# Altium footprint library NuM487_DEVB.PcbLib: 23 footprints (part 2 of 2)
Each footprint in its own frame and in the unit in brackets; x right, y up, seen from the top. Pads: shape width x height; smd on the part's side, far side on the other; paste and mask are expansions set on the pad; w line width, h text height; cw(c..) or ccw(c..) is an arc to the next point about the centre after c.
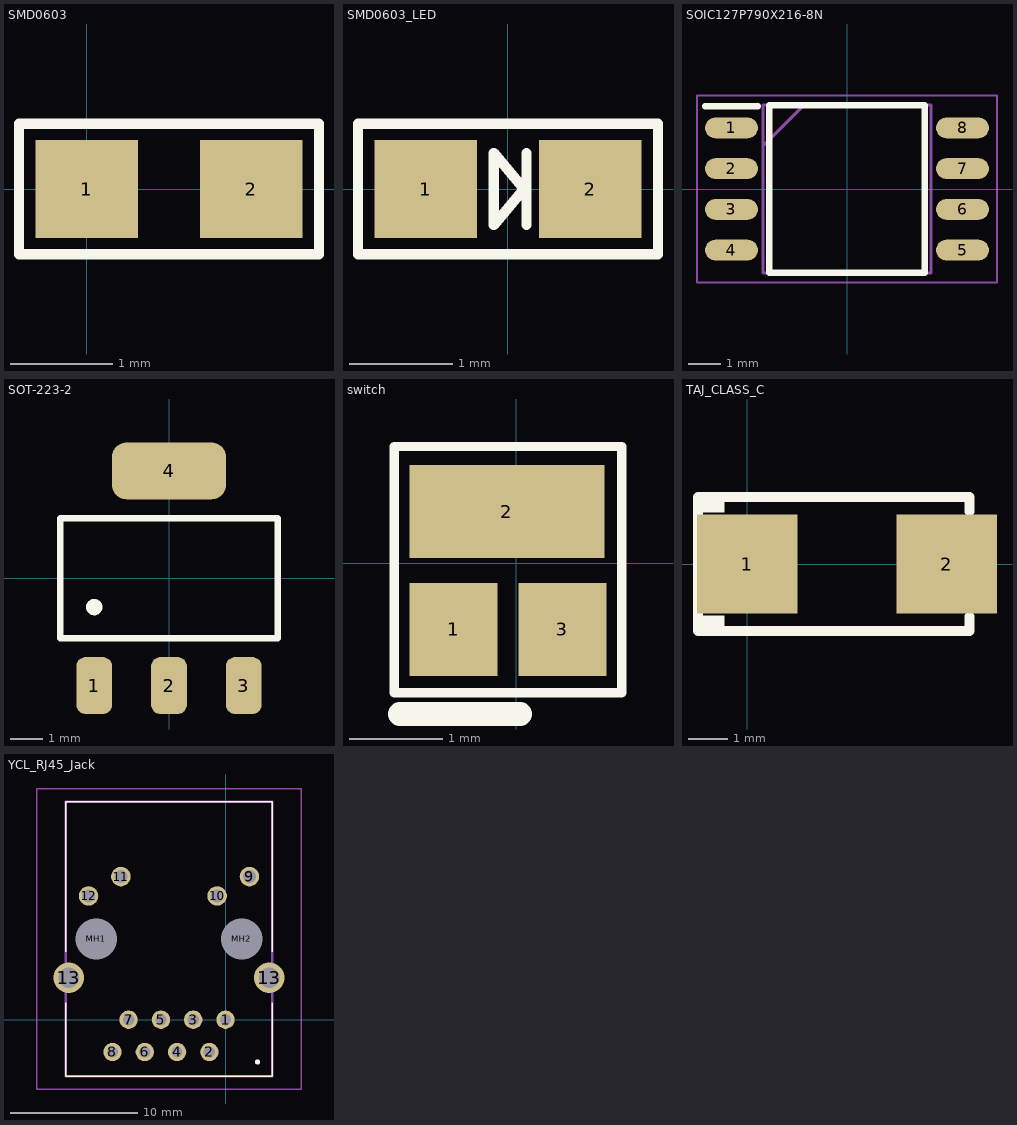
[diagram p1: the footprints below, top view; thin cyan lines are the x and y axes]

## SMD0603 [mm]
pads (2):
  rect 1x0.95 smd: 1(0,0) 2(1.6,0)
Top Overlay:
  lines w0.1: -0.66,-0.635 2.26,-0.635 2.26,0.635 -0.66,0.635 -0.66,-0.635
3D body "AMK107BBJ476MA-RE.stp": height 1, standoff 0, extent -0.05,-0.45 1.65,0.45

## SMD0603_LED [mm]
pads (2):
  rect 1x0.95 smd: 1(-0.8,0) 2(0.8,0)
Top Overlay:
  lines w0.1: -0.14,-0.35 -0.14,0.35 ; -0.136,-0.35 0.158,0 -0.136,0.35 ; 0.18,-0.35 0.18,0.35 ; -1.46,-0.635 1.46,-0.635 1.46,0.635 -1.46,0.635 -1.46,-0.635
3D body "AMK107BBJ476MA-RE.stp": height 1, standoff 0, extent -0.85,-0.45 0.85,0.45

## SOIC127P790X216-8N [mm]
pads (8):
  oval 1.65x0.65 smd: 1(-3.6,1.905) 2(-3.6,0.635) 3(-3.6,-0.635) 4(-3.6,-1.905) 5(3.6,-1.905) 6(3.6,-0.635) 7(3.6,0.635) 8(3.6,1.905)
Top Overlay:
  lines w0.2: -4.425,2.58 -2.775,2.58 ; -2.425,-2.615 2.425,-2.615 2.425,2.615 -2.425,2.615 -2.425,-2.615
Mechanical 13:
  lines w0.1: -2.615,1.345 -1.345,2.615 ; -2.615,-2.615 2.615,-2.615 2.615,2.615 -2.615,2.615 -2.615,-2.615
Mechanical 15:
  lines w0.05: -4.675,-2.915 4.675,-2.915 4.675,2.915 -4.675,2.915 -4.675,-2.915
3D body "W25Q128JVSIQ.stp": height 2.16, standoff 0, extent -3.95,-2.615 3.95,2.615

## SOT-223-2 [mm] "SOT-223/SC-73; 4 Leads; Body 6.7 x 7.3 mm, inc. leads (LxW max)"
height 1.75
pads (4):
  rrect50% 1.1x1.75 smd: 1(-2.3,-3.3) 2(0,-3.3) 3(2.3,-3.3)
  rrect50% 3.5x1.75 smd: 4(0,3.3)
Top Overlay:
  circle w0.25: c-2.3,-0.889 r0.125
  lines w0.2: -3.35,-1.85 -3.35,1.85 3.35,1.85 3.35,-1.85 -3.35,-1.85
3D body "SOT-223-2.STEP": height 1.85, standoff -0.05, extent -3.35,-3.704 3.35,3.5

## switch [mm]
pads (3):
  rect 0.95x1 smd: 1(-0.676,-0.715) 3(0.496,-0.715)
  rect 2.1x1 smd: 2(-0.101,0.555)
Top Overlay:
  lines w0.1: -1.313,-1.395 -1.313,1.255 1.134,1.255 1.134,-1.395 -1.313,-1.395
  lines w0.254: -1.256,-1.625 0.044,-1.625

## TAJ_CLASS_C [mm]
pads (2):
  rect 2.55x2.5 smd: 1(0,0) 2(5.05,0)
Top Overlay:
  rectangle: -1.25,-1.7 -0.575,-1.3
  rectangle: -1.25,1.3 -0.575,1.7
  lines w0.254: 5.625,-1.325 5.625,-1.7 -0.575,-1.7 -1.25,-1.7 -1.25,1.7 -0.575,1.7 5.625,1.7 5.625,1.325
3D body "TAJC227K006TNJ.stp": height 2.8, standoff 0, extent -0.528,-1.583 5.472,1.567

## YCL_RJ45_Jack [mm]
pads (16):
  round 1.446 hole 0.89: 1(0,0) 2(-1.27,-2.54) 3(-2.54,0) 4(-3.81,-2.54) 5(-5.08,0) 6(-6.35,-2.54) 7(-7.62,0) 8(-8.89,-2.54)
  round 1.53 hole 1.02: 9(1.88,11.25) 10(-0.66,9.73) 11(-8.23,11.25) 12(-10.77,9.73)
  round 2.4 hole 1.6: 13(-12.32,3.3) 13(3.43,3.3)
  round 1.625 hole 3.25 unplated: MH1(-10.16,6.35) MH2(1.27,6.35)
Top Overlay:
  lines w0.1: -12.575,1.35 -12.575,-4.45 3.685,-4.45 3.685,1.35 ; -12.575,5.35 -12.575,17.14 3.685,17.14 3.685,5.35
  lines w0.2: 2.42,-3.32 ccw(c2.52,-3.32) 2.62,-3.32 ccw(c2.52,-3.32) 2.42,-3.32
Mechanical 13:
  lines w0.2: -12.575,-4.45 -12.575,17.14 3.685,17.14 3.685,-4.45 -12.575,-4.45
Mechanical 15:
  lines w0.1: -14.86,-5.45 -14.86,18.14 5.97,18.14 5.97,-5.45 -14.86,-5.45
3D body: height 0.25, standoff 0, extent -13.014,-4.45 4.13,17.14